# EAGLE library part AAT2215 (library kennethlimcp)
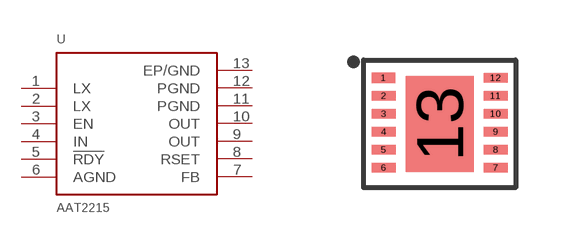
[diagram p10: symbol with the pads of TDFN33-12; footprint TDFN33-12]

Designator prefix U

## AAT2215  [TDFN33-12]
1  LX
2  LX
3  EN  in
4  IN
5  !RDY
6  AGND  pwr
7  FB  pas
8  RSET  pas
9  OUT  pwr
10  OUT  pwr
11  PGND  pwr
12  PGND  pwr
13  EP/GND  pwr

## Footprint TDFN33-12 (pad centres in mm)
smd 0.6 x 0.24: 1 -0.1,2.25; 2 -0.1,1.8; 3 -0.1,1.35; 4 -0.1,0.9; 5 -0.1,0.45; 6 -0.1,0; 7 2.7,0; 8 2.7,0.45; 9 2.7,0.9; 10 2.7,1.35; 11 2.7,1.8; 12 2.7,2.25
smd 1.7 x 2.4: 13 1.3,1.1